# Altium footprint library 2N3904.PcbLib: 1 footprints
Each footprint in its own frame and in the unit in brackets; x right, y up, seen from the top. Pads: shape width x height; smd on the part's side, far side on the other; paste and mask are expansions set on the pad; w line width, h text height; cw(c..) or ccw(c..) is an arc to the next point about the centre after c.
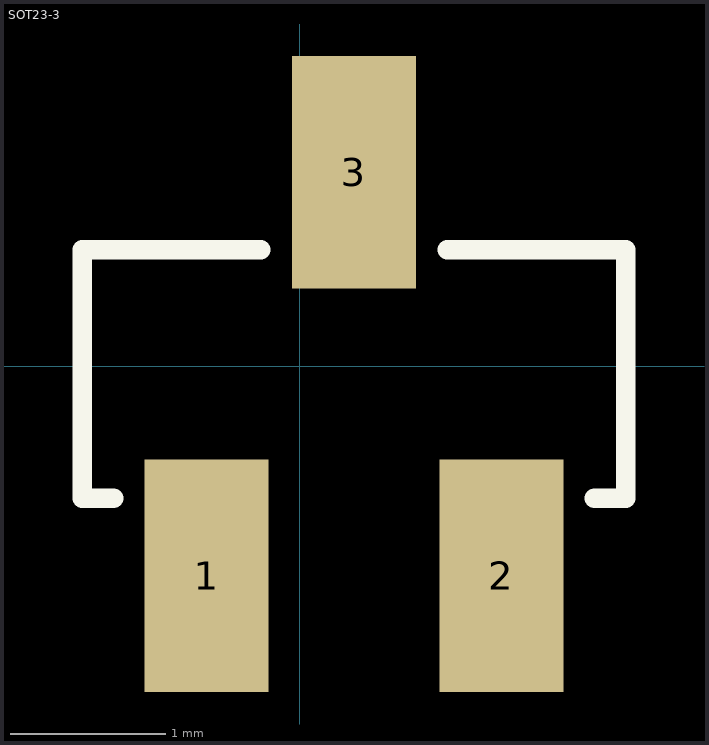
[diagram p0: the footprint, top view; thin cyan lines are the x and y axes]

## SOT23-3 [mm]
pads (3):
  rect 0.8x1.5 smd paste+0 mask+0.102: 1(-0.6,-1.35) 2(1.3,-1.35) 3(0.35,1.25)
Top Overlay:
  lines w0.127: -1.2,-0.85 -1.4,-0.85 -1.4,0.75 -0.25,0.75 ; 0.95,0.75 2.1,0.75 2.1,-0.85 1.9,-0.85
3D body "step_temp.STEP": height 2, standoff -0.6, extent 0,-1.2 3.04,0.1